# EAGLE library part SHF105 (library Gadgeteer)
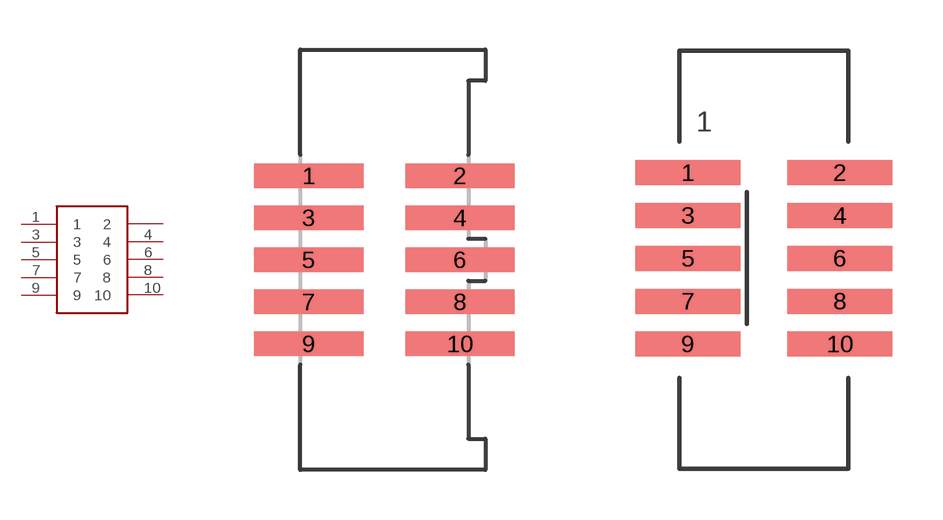
[diagram p0: symbol with the pads of SHF105DSM; footprints SHF105DSM, SHF105DSM_1]

Designator prefix -

## SHF105SM  [SHF105DSM]
1  1  pas
2  2  pas
3  3  pas
4  4  pas
5  5  pas
6  6  pas
7  7  pas
8  8  pas
9  9  pas
10  10  pas

## SHF105  [SHF105DSM_1]
Pads as for SHF105DSM

## Footprint SHF105DSM (pad centres in mm)
smd 3.302 x 0.737: 1 -2.286,2.54; 2 2.286,2.54; 3 -2.286,1.27; 4 2.286,1.27; 5 -2.286,0; 6 2.286,0; 7 -2.286,-1.27; 8 2.286,-1.27; 9 -2.286,-2.54; 10 2.286,-2.54

## Footprint SHF105DSM_1 (pad centres in mm)
smd 3.108 x 0.74: 1 -2.254,2.58; 2 2.254,2.58; 3 -2.254,1.31; 4 2.254,1.31; 5 -2.254,0.04; 6 2.254,0.04; 7 -2.254,-1.23; 8 2.254,-1.23; 9 -2.254,-2.5; 10 2.254,-2.5